# Altium schematic symbol library 4-bit binary adder.SchLib: 1 symbol
Pins are listed as number, name and electrical type; pins without a type are passive.

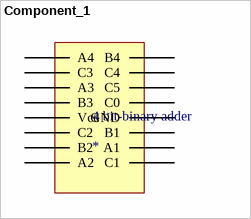
[diagram p0: symbol Component_1]

## Component_1
designator 4 bit-binary adder
footprint 7483
footprint 74283
pins: A1, A2, A3, A4, B1, B2, B3, B4, C0, C1, C2, C3, C4, C5, GND, Vcc